# Altium schematic symbol library uSimar_Components.SchLib: 9 symbols
Pins are listed as number, name and electrical type; pins without a type are passive.

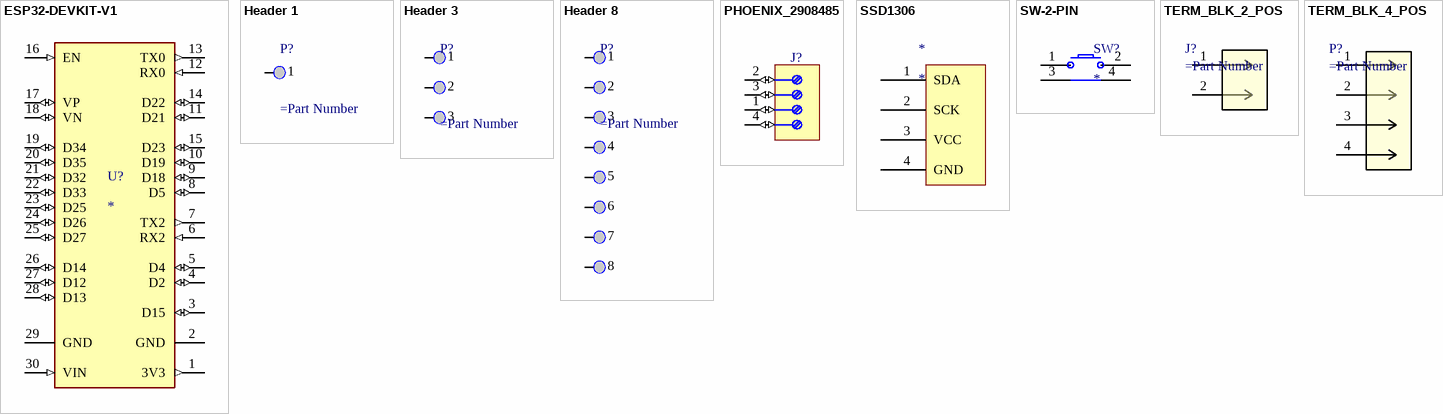
[diagram p0: symbols ESP32-DEVKIT-V1 to TERM_BLK_4_POS]

## ESP32-DEVKIT-V1
designator U?
Dual core, Wi-Fi: 2.4 GHz up to 150 Mbits/s,BLE (Bluetooth Low Energy) and legacy Bluetooth, 32 bits, Up to 240 MHz; MP: ESP32-DEVKIT-V1; MF: Do it; Price: None; Availability: Not in stock; Package: None; Value: *; SnapEDA_Link: https://www.snapeda.com/parts/ESP32-DEVKIT-V1/Do+it/view-part/?ref=snap; Check_prices: https://www.snapeda.com/parts/ESP32-DEVKIT-V1/Do+it/view-part/?ref=eda
footprint MODULE_ESP32_DEVKIT_V1
pins: 1 3V3 (out), 2 GND (power), 3 D15 (io), 4 D2 (io), 5 D4 (io), 6 RX2 (in), 7 TX2 (out), 8 D5 (io), 9 D18 (io), 10 D19 (io), 11 D21 (io), 12 RX0 (in), 13 TX0 (out), 14 D22 (io), 15 D23 (io), 16 EN (in), 17 VP (io), 18 VN (io), 19 D34 (io), 20 D35 (io), 21 D32 (io), 22 D33 (io), 23 D25 (io), 24 D26 (io), 25 D27 (io), 26 D14 (io), 27 D12 (io), 28 D13 (io), 29 GND (power), 30 VIN (in)

## Header 1
designator P?
Header, 1-Pin
footprint HDR1X1 (Connector; Header; 3 Position)
pins: 1

## Header 3
designator P?
Header, 3-Pin
footprint HDR1X3 (Connector; Header; 3 Position)
pins: 1, 2, 3

## Header 8
designator P?
Header, 8-Pin
footprint HDR1X8 (Connector; Header; 5 Position)
pins: 1, 2, 3, 4, 5, 6, 7, 8

## PHOENIX_2908485
designator J?
Terminal Block, 4 Positions, 1 to 4 With Screw Connection
footprint PHOENIX_1757268 (PHOENIX MSTBA Serie, Pitch 5.08mm, 12A, 250V, 4 Positions Header)
pins: 1 (io), 2 (io), 3 (io), 4 (io)

## SSD1306
designator *
footprint SSD1306 128X32 (Connector; Header; 4 Position)
pins: 1 SDA, 2 SCK, 3 VCC, 4 GND

## SW-2-PIN
designator SW?
Push Tactile Button
footprint SPST_NO (Tactile Switch SPST-NO Side Actuated Through Hole, Right Angle)
pins: 1, 2, 3, 4

## TERM_BLK_2_POS
designator J?
No Description Available; Manufacturer_Part_Number: OSTTC022162; Vendor: On Shore Technology Inc; Built_By: EMA_Cory; SourceLibrary: On_Shore_Technology_2019-12-02; Copyright: Copyright (C) 2018 Accelerated Designs. All rights reserved; RefDes: RefDes; Type: DEV
footprint TERM_BLK_2_POS
pins: 1, 2

## TERM_BLK_4_POS
designator P?
No Description Available; Manufacturer_Part_Number: OSTTC022162; Vendor: On Shore Technology Inc; Built_By: EMA_Cory; SourceLibrary: On_Shore_Technology_2019-12-02; Copyright: Copyright (C) 2018 Accelerated Designs. All rights reserved; RefDes: RefDes; Type: DEV
footprint TERMINAL_BLOCK_4POS
footprint PHOENIX_1757268 (PHOENIX MSTBA Serie, Pitch 5.08mm, 12A, 250V, 4 Positions Header)
pins: 1, 2, 3, 4